# EAGLE library part TUSB3410 (library tusb3x10)
USB Controller full RS232 , IrDA, RS485 , 4 I/O integrated 8052 microcontroller 16kB RAM code , 2kB RAM data
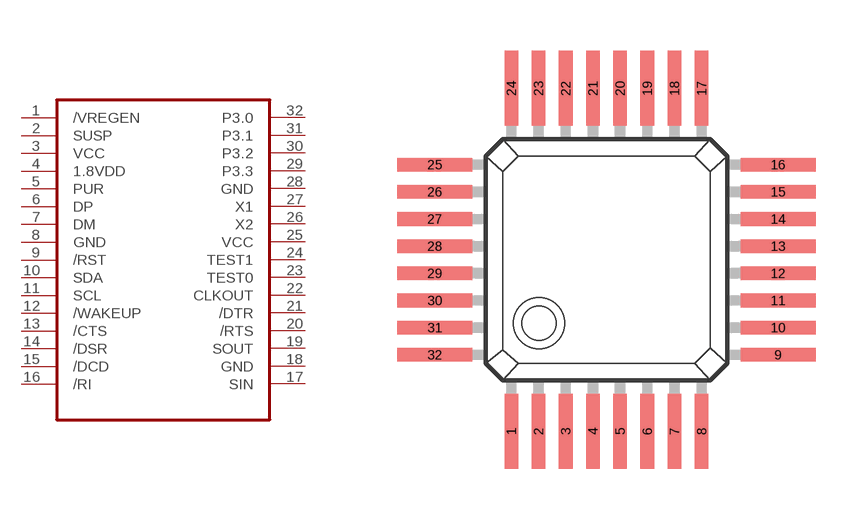
[diagram p0: symbol with the pads of LQFP32; footprint LQFP32]

Designator prefix IC

## TUSB3410  [LQFP32]
1  /VREGEN
2  SUSP
3  VCC  pwr
4  1.8VDD  pwr
5  PUR
6  DP
7  DM
8  GND
9  /RST
10  SDA
11  SCL
12  /WAKEUP
13  /CTS
14  /DSR
15  /DCD
16  /RI
17  SIN
18  GND  pwr
19  SOUT
20  /RTS
21  /DTR
22  CLKOUT
23  TEST0
24  TEST1
25  VCC  pwr
26  X2
27  X1
28  GND  pwr
29  P3.3
30  P3.2
31  P3.1
32  P3.0

## Footprint LQFP32 (pad centres in mm)
smd 0.4 x 2.2: 1 -2.4,-4.65; 2 -1.6,-4.65; 3 -0.8,-4.65; 4 0,-4.65; 5 0.8,-4.65; 6 1.6,-4.65; 7 2.4,-4.65; 8 3.2,-4.65; 17 3.2,5.45; 18 2.4,5.45; 19 1.6,5.45; 20 0.8,5.45; 21 0,5.45; 22 -0.8,5.45; 23 -1.6,5.45; 24 -2.4,5.45
smd 2.2 x 0.4: 9 5.45,-2.4; 10 5.45,-1.6; 11 5.45,-0.8; 12 5.45,0; 13 5.45,0.8; 14 5.45,1.6; 15 5.45,2.4; 16 5.45,3.2; 25 -4.65,3.2; 26 -4.65,2.4; 27 -4.65,1.6; 28 -4.65,0.8; 29 -4.65,0; 30 -4.65,-0.8; 31 -4.65,-1.6; 32 -4.65,-2.4